# Altium integrated library Integrated_Library1.IntLib: 1 symbol
Pins are listed as number, name and electrical type; pins without a type are passive.

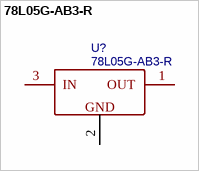
[diagram p0: symbol 78L05G-AB3-R]

## 78L05G-AB3-R
designator U?
BOM_Manufacturer: UTC; BOM_Supplier: LCSC; BOM_Manufacturer Part: 78L05G-AB3-R; BOM_Supplier Part: C71136; BOM_JLCPCB Part Class: Basic Part; spicePre: U; spiceSymbolName: 78L05G-AB3-R
footprint SOT-89-3_L4.5-W2.5-P1.50-LS4.2-BR
pins: 1 OUT, 2 GND, 3 IN